# Altium footprint library mikroBUS_socket_standard.PcbLib: 2 footprints
Each footprint in its own frame and in the unit in brackets; x right, y up, seen from the top. Pads: shape width x height; smd on the part's side, far side on the other; paste and mask are expansions set on the pad; w line width, h text height; cw(c..) or ccw(c..) is an arc to the next point about the centre after c.
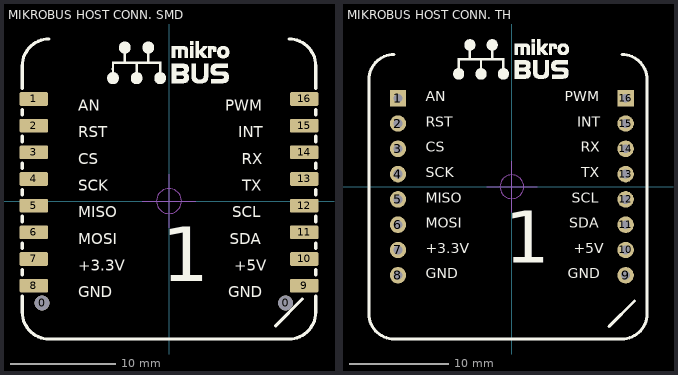
[diagram p0: the footprints below, top view; thin cyan lines are the x and y axes]

## MIKROBUS HOST CONN. SMD [mm]
height 3.16
pads (18):
  round 1.4 hole 1.4 unplated: 0(-12.094,-9.703) 0(11.106,-9.703)
  rrect20% 2.7x1.3 smd mask+0.076: 1(-12.88,9.728) 2(-12.88,7.188) 3(-12.88,4.648) 4(-12.88,2.108) 5(-12.88,-0.432) 6(-12.88,-2.972) 7(-12.88,-5.512) 8(-12.88,-8.052) 9(12.88,-8.052) 10(12.88,-5.512) 11(12.88,-2.972) 12(12.88,-0.432) 13(12.88,2.108) 14(12.88,4.648) 15(12.88,7.188) 16(12.88,9.728)
Top Overlay:
  drawing of 2451 lines, arcs and shapes, not listed
  text "1" at -0.705,-9.322 h8.89
  text "SDA" at 5.78,-4.476 h1.78
  text "RST" at -8.655,5.684 h1.78
  text "CS" at -8.655,3.144 h1.78
  text "MISO" at -8.655,-1.936 h1.78
  text "SCK" at -8.655,0.604 h1.78
  text "MOSI" at -8.655,-4.476 h1.78
  text "+3.3V" at -8.655,-7.016 h1.78
  text "GND" at -8.655,-9.556 h1.78
  text "SCL" at 6.013,-1.936 h1.78
  text "INT" at 6.598,5.684 h1.78
  text "RX" at 6.907,3.144 h1.78
  text "TX" at 6.996,0.604 h1.78
  text "GND" at 5.62,-9.556 h1.78
  text "+5V" at 6.204,-7.016 h1.78
  text "AN" at -8.655,8.224 h1.78
  text "PWM" at 5.335,8.224 h1.78
Mechanical 15:
  circle w0.051: c0,0 r1.191
  circle w0.051: c0,0 r1.191
  lines w0.051: -2.54,0 2.54,0 -2.54,0 ; 0,-2.54 0,2.54 0,-2.54
3D body "MikrobusSocketBlack.stp": height 11.01, standoff -1.19, extent -13.719,-11.879 13.741,11.015

## MIKROBUS HOST CONN. TH [mil]
height 47.24
pads (16):
  rect 65x65 hole 35: 1(-450,350) 16(450,350)
  round 65 hole 35: 2(-450,250) 3(-450,150) 4(-450,50) 5(-450,-50) 6(-450,-150) 7(-450,-250) 8(-450,-350) 9(450,-350) 10(450,-250) 11(450,-150) 12(450,-50) 13(450,50) 14(450,150) 15(450,250)
Top Overlay:
  drawing of 2437 lines, arcs and shapes, not listed
  text "SDA" at 227.55,-176.23 h70
  text "RST" at -340.73,223.77 h70
  text "CS" at -340.73,123.77 h70
  text "MISO" at -340.73,-76.23 h70
  text "SCK" at -340.73,23.77 h70
  text "MOSI" at -340.73,-176.23 h70
  text "+3.3V" at -340.73,-276.23 h70
  text "GND" at -340.73,-376.23 h70
  text "SCL" at 236.75,-76.23 h70
  text "INT" at 259.75,223.77 h70
  text "RX" at 271.94,123.77 h70
  text "TX" at 275.43,23.77 h70
  text "GND" at 221.27,-376.23 h70
  text "+5V" at 244.27,-276.23 h70
  text "AN" at -340.73,323.77 h70
  text "PWM" at 210.05,323.77 h70
  text "1" at -27.77,-367 h350
Mechanical 15:
  circle w2: c0,0 r46.89
  lines w2: -100,0 100,0 ; 0,-100 0,100
3D body "mikroBUS_TH_Black.stp": height 433.62, standoff -107.77, extent -496.94,-500.66 503.84,400.67